# Altium footprint library header 2.PCBLIB: 1 footprints
Each footprint in its own frame and in the unit in brackets; x right, y up, seen from the top. Pads: shape width x height; smd on the part's side, far side on the other; paste and mask are expansions set on the pad; w line width, h text height; cw(c..) or ccw(c..) is an arc to the next point about the centre after c.
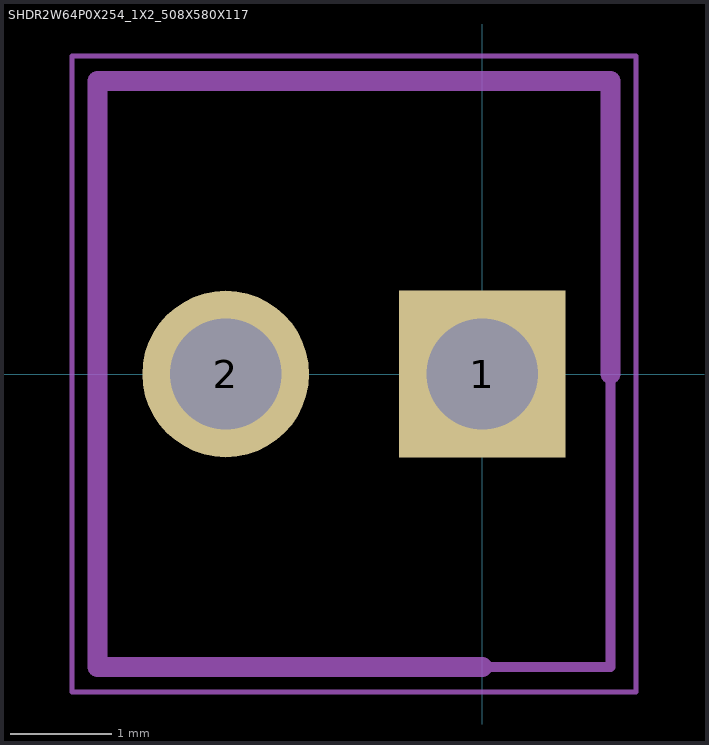
[diagram p0: the footprint, top view; thin cyan lines are the x and y axes]

## SHDR2W64P0X254_1X2_508X580X117 [mm]
pads (2):
  rect 1.65x1.65 / inner round 1.524 / far side rect 1.65x1.65 hole 1.1: 1(0,0)
  round 1.65 hole 1.1: 2(-2.54,0)
tDocu:
  lines w0.05: -4.06,-3.15 1.52,-3.15 1.52,3.15 -4.06,3.15 -4.06,-3.15
  lines w0.1: -3.81,-2.9 1.27,-2.9 1.27,2.9 -3.81,2.9 -3.81,-2.9
tPlace:
  lines w0.2: 0,-2.9 -3.81,-2.9 -3.81,2.9 1.27,2.9 1.27,0